# EAGLE library part MICRO_MATE-N-LOK_10_2_ROW_RIGHT_ANGLE_THROUGH (library con-tyco-micro-mate-n-lok-old)
4-794620-0
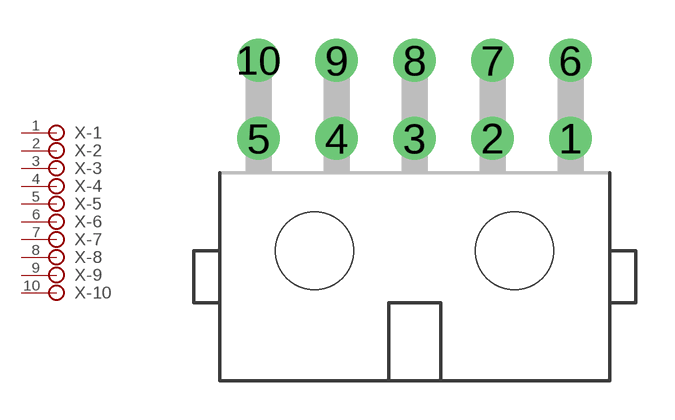
[diagram p11: symbol with the pads of MICRO_MATE-N-LOK_10_2_ROW_RIGHT_ANGLE_THROUGH; footprint MICRO_MATE-N-LOK_10_2_ROW_RIGHT_ANGLE_THROUGH]

Designator prefix X; gates -10=PIN -9=PIN -8=PIN -7=PIN -6=PIN -5=PIN -4=PIN -3=PIN -2=PIN -1=PIN

## MICRO_MATE-N-LOK_10_2_ROW_RIGHT_ANGLE_THROUGH  [MICRO_MATE-N-LOK_10_2_ROW_RIGHT_ANGLE_THROUGH]
1  -1:P$1
2  -2:P$1
3  -3:P$1
4  -4:P$1
5  -5:P$1
6  -6:P$1
7  -7:P$1
8  -8:P$1
9  -9:P$1
10  -10:P$1

## Footprint MICRO_MATE-N-LOK_10_2_ROW_RIGHT_ANGLE_THROUGH (pad centres in mm)
drill 1.1: 1 6,4.32; 2 3,4.32; 3 0,4.32; 4 -3,4.32; 5 -6,4.32; 6 6,7.32; 7 3,7.32; 8 0,7.32; 9 -3,7.32; 10 -6,7.32
hole 3 at -3.85,0
hole 3 at 3.85,0